# Altium schematic symbol library lib_Robotronik.SchLib: 27 symbols
Pins are listed as number, name and electrical type; pins without a type are passive.

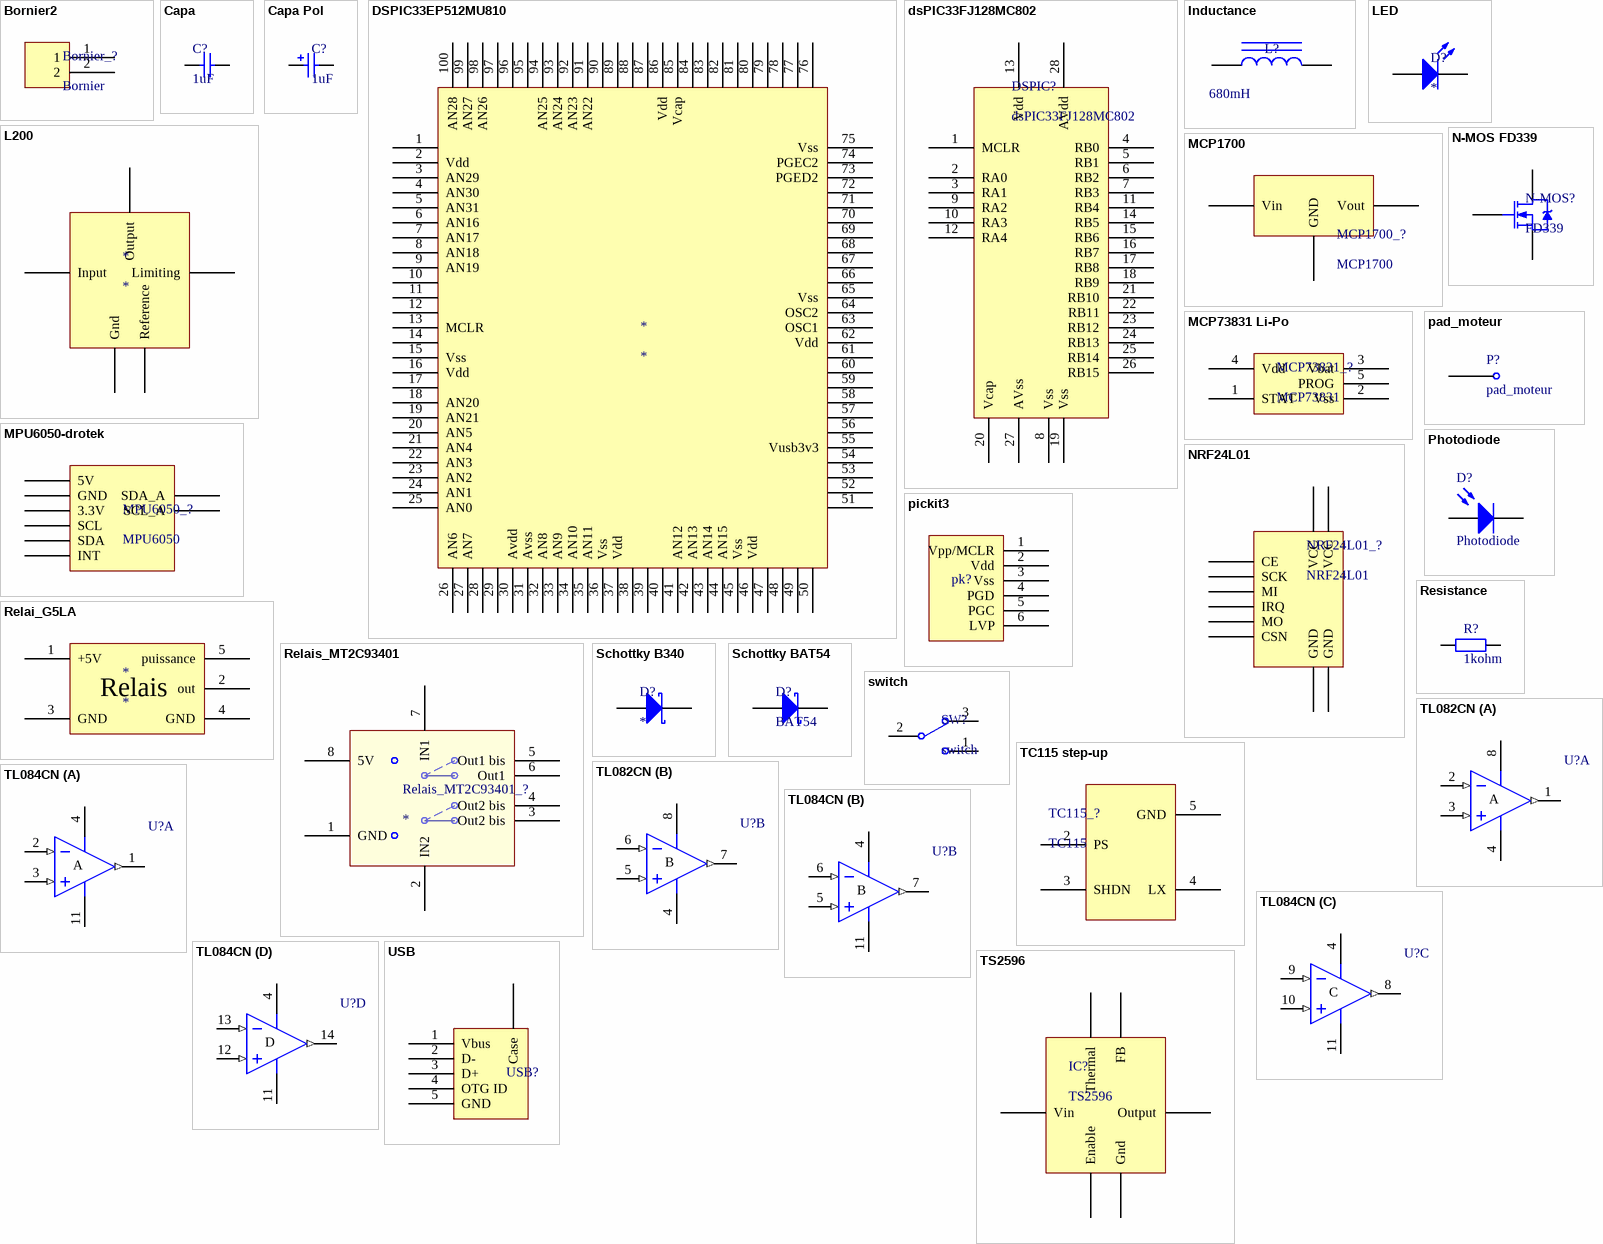
[diagram p0: symbols Bornier2 to USB]

## Bornier2
designator Bornier_?, comment Bornier
footprint Bornier
pins: 1, 2

## Capa
designator C?, comment 1uF
footprint cms805
footprint Capa_plastique
footprint Capa_ceramique1
footprint cms805 - mini
pins: 1, 2

## Capa Pol
designator C?, comment 1uF
footprint Capa_pol1
footprint Capa_Pol2
pins: 1, 2

## DSPIC33EP512MU810
designator *
footprint TQFP100PF
pins: 1, 2 Vdd, 3 AN29, 4 AN30, 5 AN31, 6 AN16, 7 AN17, 8 AN18, 9 AN19, 10, 11, 12, 13 MCLR, 14, 15 Vss, 16 Vdd, 17, 18 AN20, 19 AN21, 20 AN5, 21 AN4, 22 AN3, 23 AN2, 24 AN1, 25 AN0, 26 AN6, 27 AN7, 28, 29, 30 Avdd, 31 Avss, 32 AN8, 33 AN9, 34 AN10, 35 AN11, 36 Vss, 37 Vdd, 38, 39, 40, 41 AN12, 42 AN13, 43 AN14, 44 AN15, 45 Vss, 46 Vdd, 47, 48, 49, 50, 51, 52, 53, 54, 55 Vusb3v3, 56, 57, 58, 59, 60, 61, 62 Vdd, 63 OSC1, 64 OSC2, 65 Vss, 66, 67, 68, 69, 70, 71, 72, 73 PGED2, 74 PGEC2, 75 Vss, 76, 77, 78, 79, 80, 81, 82, 83, 84, 85 Vcap, 86 Vdd, 87, 88, 89, 90, 91 AN22, 92 AN23, 93 AN24, 94 AN25, 95, 96, 97, 98 AN26, 99 AN27, 100 AN28

## dsPIC33FJ128MC802
designator DSPIC?
footprint SOIC28(300mil)
footprint DIP28
pins: 1 MCLR, 2 RA0, 3 RA1, 4 RB0, 5 RB1, 6 RB2, 7 RB3, 8 Vss, 9 RA2, 10 RA3, 11 RB4, 12 RA4, 13 Vdd, 14 RB5, 15 RB6, 16 RB7, 17 RB8, 18 RB9, 19 Vss, 20 Vcap, 21 RB10, 22 RB11, 23 RB12, 24 RB13, 25 RB14, 26 RB15, 27 AVss, 28 AVdd

## Inductance
designator L?  Valeur: 680mH
footprint self
pins: 1, 2

## L200
designator *
footprint Pentawatt
pins: 1 Input, 2 Limiting, 3 Gnd, 4 Reference, 5 Output

## LED
designator D?
footprint cms1206
footprint Led_5mm
pins: 1 A, 2 K

## MCP1700
designator MCP1700_?
footprint SOT89
pins: 1 GND, 2 Vin, 3 Vout

## MCP73831 Li-Po
designator MCP73831_?, comment MCP73831
footprint SOT23-5
pins: 1 STAT, 2 Vss, 3 Vbat, 4 Vdd, 5 PROG

## MPU6050-drotek
designator MPU6050_?, comment MPU6050
footprint MPU6050_drotek
pins: 1 5V, 2 GND, 3 3.3V, 4 SCL, 5 SDA, 6 INT, 7 SDA_A, 8 SCL_A

## N-MOS FD339
designator N-MOS?, comment FD339
footprint SOT23
pins: 1 G, 2 D, 3 S

## NRF24L01
designator NRF24L01_?
footprint NRF24L01
pins: 1 VCC, 2 CE, 3 SCK, 4 MI, 5 GND, 6 GND, 7 IRQ, 8 MO, 9 CSN, 10 VCC

## pad_moteur
designator P?
footprint PAD
pins: 1

## Photodiode
designator D?
Published: 24-Mar-1999; LatestRevisionDate: 17-Jul-2002; LatestRevisionNote: Re-released for DXP Platform.; PackageReference: PIN2; Publisher: Altium Limited
footprint TEMD1000
pins: 1 A, 2 K

## pickit3
designator pk?
footprint pickit3
pins: 1 Vpp/MCLR, 2 Vdd, 3 Vss, 4 PGD, 5 PGC, 6 LVP

## Relai_G5LA
designator *
footprint Relai_g5la-1
pins: 1 +5V, 2 out, 3 GND, 4 GND, 5 puissance
text: Relais

## Relais_MT2C93401
designator Relais_MT2C93401_?
footprint Relais_MT2C93401
pins: 1 GND, 2 IN2, 3 Out2 bis, 4 Out2 bis, 5 Out1 bis, 6 Out1, 7 IN1, 8 5V

## Resistance
designator R?, comment 1kohm
footprint cms805
footprint traversant 1/4W
footprint cms805 - mini
pins: 1, 2

## Schottky B340
designator D?
footprint SMC
pins: 1 A, 2 K

## Schottky BAT54
designator D?, comment BAT54
footprint SOT23
pins: 1 A, 2 K

## switch
designator SW?
footprint inverseur
pins: 1, 2, 3

## TC115 step-up
designator TC115_?, comment TC115
footprint SOT89-5
pins: 1 NC hidden, 2 PS, 3 SHDN, 4 LX, 5 GND

## TL082CN
designator U?
General-Purpose J-FET Dual Operational Amplifier; Published: 24-Aug-2001; LatestRevisionDate: 06-Jun-2005; LatestRevisionNote: Stylized 3D Model Added.; DatasheetVersion: Jan-1999; PackageReference: DIP8; Publisher: Altium Limited; PackageDescription: DIP; 8 Leads; Row Spacing 7.62 mm; Pitch 2.54 mm; Code_JEDEC: MO-001-AN; ComponentLink1Description: Manufacturer Link; ComponentLink1URL: http://www.st.com/; ComponentLink2Description: Datasheet; ComponentLink2URL: http://www.st.com/stonline/products/literature/ds/2300/tl082.pdf
footprint DIP8 (DIP; 8 Leads; Row Spacing 7.62 mm; Pitch 2.54 mm)
footprint SOIC8
pins on every part: 4 V- (power), 8 V+ (power)
part A pins: 1 OUT (out), 2 IN- (in), 3 IN+ (in)
part B pins: 5 IN+ (in), 6 IN- (in), 7 OUT (out)
part A text: A
part B text: B

## TL084CN
designator U?
General-Purpose J-FET Quad Operational Amplifier; Published: 24-Aug-2001; LatestRevisionDate: 06-Jun-2005; LatestRevisionNote: Stylized 3D Model Added.; DatasheetVersion: Jan-1999; PackageVersion: Jan-1997; PackageReference: DIP14; Publisher: Altium Limited; PackageDescription: DIP; 14 Leads; Row Spacing 7.62 mm; Pitch 2.54 mm; ComponentLink1Description: Manufacturer Link; ComponentLink1URL: http://www.st.com/; ComponentLink2Description: Datasheet; ComponentLink2URL: http://www.st.com/stonline/products/literature/ds/2301/tl084.pdf
footprint DIP14 (DIP; 14 Leads; Row Spacing 7.62 mm; Pitch 2.54 mm)
footprint SOIC14
footprint TSSOP14
pins on every part: 4 V+ (power), 11 V- (power)
part A pins: 1 OUT (out), 2 IN- (in), 3 IN+ (in)
part B pins: 5 IN+ (in), 6 IN- (in), 7 OUT (out)
part C pins: 8 OUT (out), 9 IN- (in), 10 IN+ (in)
part D pins: 12 IN+ (in), 13 IN- (in), 14 OUT (out)
part A text: A
part B text: B
part C text: C
part D text: D

## TS2596
designator IC?
footprint TO263-5L
pins: 0 Thermal, 1 Vin, 2 Output, 3 Gnd, 4 FB, 5 Enable

## USB
designator USB?
footprint USB_con
pins: 0 Case, 1 Vbus, 2 D-, 3 D+, 4 OTG ID, 5 GND